# Altium schematic symbol library CAP 1500pF 25V.SchLib: 1 symbol
Pins are listed as number, name and electrical type; pins without a type are passive.

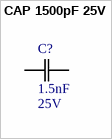
[diagram p0: symbol CAP 1500pF 25V]

## CAP 1500pF 25V
designator C?, comment Rating: 25V  (hidden comment: 1.5nF)
CAP CER 1500pF 25V X7R 0603; Tolerance: 1%; Package: 0603; Temperature Coefficient: X7R; Operating Temperature: -55C - +125C; Value: 1.5nF
footprint 0603
pins: 1 C1, 2 C2